# EAGLE library part MAX-M8 (library NEO-7)
u-blox MAX GNSS module
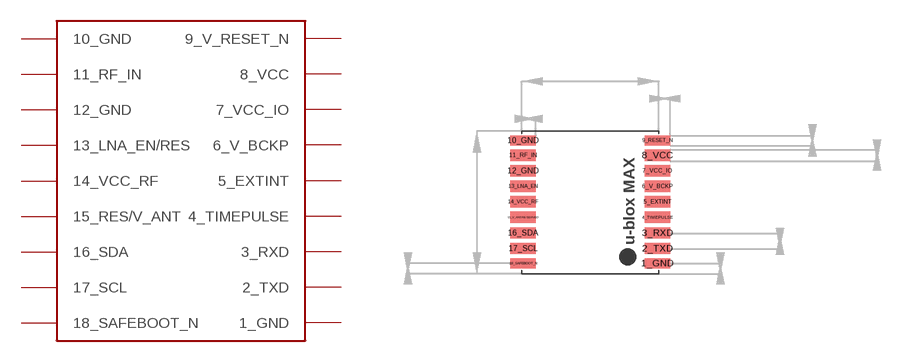
[diagram p0: symbol with the pads of MAX-M8; footprint MAX-M8]

Designator prefix -

## MAX-M8  [MAX-M8]
1_GND  1_GND  pwr
2_TXD  2_TXD
3_RXD  3_RXD
4_TIMEPULSE  4_TIMEPULSE
5_EXTINT  5_EXTINT
6_V_BCKP  6_V_BCKP
7_VCC_IO  7_VCC_IO  pwr
8_VCC  8_VCC  pwr
9_RESET_N  9_V_RESET_N  pwr
10_GND  10_GND  pwr
11_RF_IN  11_RF_IN
12_GND  12_GND  pwr
13_LNA_EN  13_LNA_EN/RES
14_VCC_RF  14_VCC_RF
15_V_ANT/RESERVED  15_RES/V_ANT
16_SDA  16_SDA
17_SCL  17_SCL
18_SAFEBOOT_N  18_SAFEBOOT_N

## Footprint MAX-M8 (pad centres in mm)
u-blox MAX GNSS module
smd 1.8 x 0.7: 1_GND 4.95,-4.4; 9_RESET_N 4.95,4.3; 10_GND -4.55,4.3; 18_SAFEBOOT_N -4.55,-4.4
smd 1.8 x 0.8: 2_TXD 4.95,-3.35; 3_RXD 4.95,-2.25; 4_TIMEPULSE 4.95,-1.15; 5_EXTINT 4.95,-0.05; 6_V_BCKP 4.95,1.05; 7_VCC_IO 4.95,2.15; 8_VCC 4.95,3.25; 11_RF_IN -4.55,3.25; 12_GND -4.55,2.15; 13_LNA_EN -4.55,1.05; 14_VCC_RF -4.55,-0.05; 15_V_ANT/RESERVED -4.55,-1.15; 16_SDA -4.55,-2.25; 17_SCL -4.55,-3.35